# EAGLE library part CC3_DC-DC (library 2000dB)
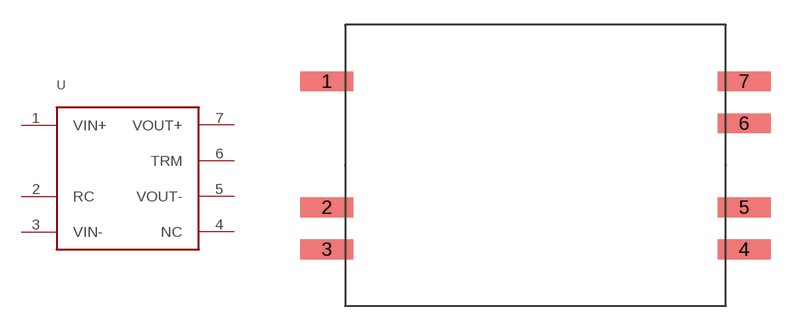
[diagram p18: symbol with the pads of CC3_SERIES_SMD; footprint CC3_SERIES_SMD]

Designator prefix -

## CC3_DC-DCSMD  [CC3_SERIES_SMD]
1  VIN+
2  RC
3  VIN-
4  NC
5  VOUT-
6  TRM
7  VOUT+

## Footprint CC3_SERIES_SMD (pad centres in mm)
smd 3.2 x 1.2: 1 -12.6,5.08; 2 -12.6,-2.54; 3 -12.6,-5.08; 4 12.6,-5.08; 5 12.6,-2.54; 6 12.6,2.54; 7 12.6,5.08